# Altium footprint library PcbLib1.PcbLib: 1 footprints
Each footprint in its own frame and in the unit in brackets; x right, y up, seen from the top. Pads: shape width x height; smd on the part's side, far side on the other; paste and mask are expansions set on the pad; w line width, h text height; cw(c..) or ccw(c..) is an arc to the next point about the centre after c.
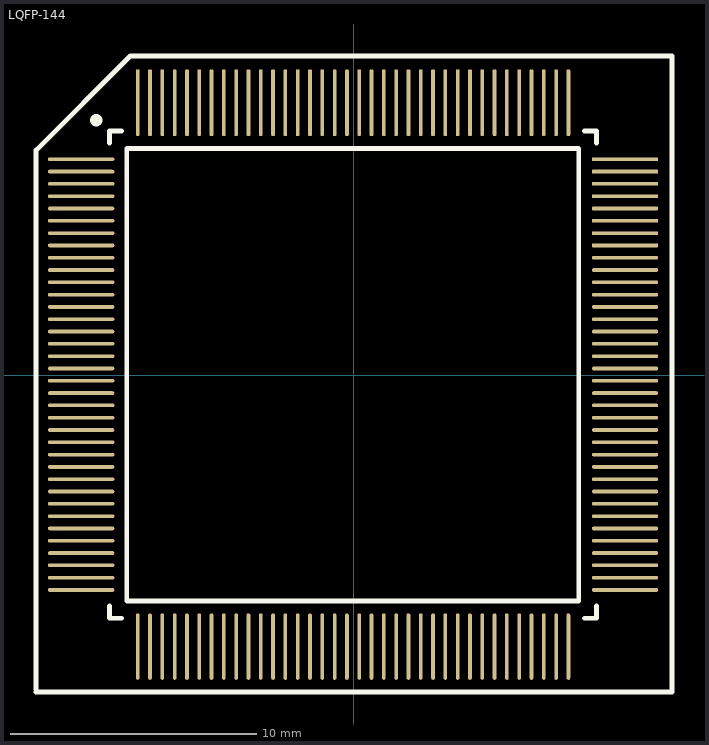
[diagram p0: the footprint, top view; thin cyan lines are the x and y axes]

## LQFP-144 [mm]
pads (144):
  oval 2.7x0.15 smd: 1(-11.075,8.775) 2(-11.075,8.275) 3(-11.075,7.775) 4(-11.075,7.275) 5(-11.075,6.775) 6(-11.075,6.275) 7(-11.075,5.775) 8(-11.075,5.275) 9(-11.075,4.775) 10(-11.075,4.275) 11(-11.075,3.775) 12(-11.075,3.275) 13(-11.075,2.775) 14(-11.075,2.275) 15(-11.075,1.775) 16(-11.075,1.275) 17(-11.075,0.775) 18(-11.075,0.275) 19(-11.075,-0.225) 20(-11.075,-0.725) 21(-11.075,-1.225) 22(-11.075,-1.725) 23(-11.075,-2.225) 24(-11.075,-2.725) 25(-11.075,-3.225) 26(-11.075,-3.725) 27(-11.075,-4.225) 28(-11.075,-4.725) 29(-11.075,-5.225) 30(-11.075,-5.725) 31(-11.075,-6.225) 32(-11.075,-6.725) 33(-11.075,-7.225) 34(-11.075,-7.725) 35(-11.075,-8.225) 36(-11.075,-8.725) 73(11.025,-8.725) 74(11.025,-8.225) 75(11.025,-7.725) 76(11.025,-7.225) 77(11.025,-6.725) 78(11.025,-6.225) 79(11.025,-5.725) 80(11.025,-5.225) 81(11.025,-4.725) 82(11.025,-4.225) 83(11.025,-3.725) 84(11.025,-3.225) 85(11.025,-2.725) 86(11.025,-2.225) 87(11.025,-1.725) 88(11.025,-1.225) 89(11.025,-0.725) 90(11.025,-0.225) 91(11.025,0.275) 92(11.025,0.775) 93(11.025,1.275) 94(11.025,1.775) 95(11.025,2.275) 96(11.025,2.775) 97(11.025,3.275) 98(11.025,3.775) 99(11.025,4.275) 100(11.025,4.775)
  oval 0.15x2.7 smd: 37(-8.775,-11.025) 38(-8.275,-11.025) 39(-7.775,-11.025) 40(-7.275,-11.025) 41(-6.775,-11.025) 42(-6.275,-11.025) 43(-5.775,-11.025) 44(-5.275,-11.025) 45(-4.775,-11.025) 46(-4.275,-11.025) 47(-3.775,-11.025) 48(-3.275,-11.025) 49(-2.775,-11.025) 50(-2.275,-11.025) 51(-1.775,-11.025) 52(-1.275,-11.025) 53(-0.775,-11.025) 54(-0.275,-11.025) 55(0.225,-11.025) 56(0.725,-11.025) 57(1.225,-11.025) 58(1.725,-11.025) 59(2.225,-11.025) 60(2.725,-11.025) 61(3.225,-11.025) 62(3.725,-11.025) 63(4.225,-11.025) 64(4.725,-11.025) 65(5.225,-11.025) 66(5.725,-11.025) 67(6.225,-11.025) 68(6.725,-11.025) 69(7.225,-11.025) 70(7.725,-11.025) 71(8.225,-11.025) 72(8.725,-11.025)
  rrect50% 2.7x0.15 smd: 101(11.025,5.275) 102(11.025,5.775) 103(11.025,6.275) 104(11.025,6.775) 105(11.025,7.275) 106(11.025,7.775) 107(11.025,8.275) 108(11.025,8.775)
  rrect50% 0.15x2.7 smd: 109(8.725,11.075) 110(8.225,11.075) 111(7.725,11.075) 112(7.225,11.075) 113(6.725,11.075) 114(6.225,11.075) 115(5.725,11.075) 116(5.225,11.075) 117(4.725,11.075) 118(4.225,11.075) 119(3.725,11.075) 120(3.225,11.075) 121(2.725,11.075) 122(2.225,11.075) 123(1.725,11.075) 124(1.225,11.075) 125(0.725,11.075) 126(0.225,11.075) 127(-0.275,11.075) 128(-0.775,11.075) 129(-1.275,11.075) 130(-1.775,11.075) 131(-2.275,11.075) 132(-2.775,11.075) 133(-3.275,11.075) 134(-3.775,11.075) 135(-4.275,11.075) 136(-4.775,11.075) 137(-5.275,11.075) 138(-5.775,11.075) 139(-6.275,11.075) 140(-6.775,11.075) 141(-7.275,11.075) 142(-7.775,11.075) 143(-8.275,11.075) 144(-8.775,11.075)
Top Overlay:
  circle w0.25: c-10.463,10.363 r0.125
  lines w0.2: -12.903,-12.878 12.903,-12.878 ; -12.903,-12.776 -12.903,9.144 -9.068,12.979 12.929,12.979 12.929,-12.878 ; -9.925,-9.375 -9.925,-9.875 -9.425,-9.875 ; -9.925,9.425 -9.925,9.925 -9.425,9.925 ; 9.375,-9.875 9.875,-9.875 9.875,-9.375 ; 9.375,9.925 9.875,9.925 9.875,9.425 ; -9.22,-9.169 -9.22,9.22 9.144,9.22 9.144,-9.169 -9.22,-9.169